# EAGLE library part MICRO_ATTINY85 (library homemade-hardware)
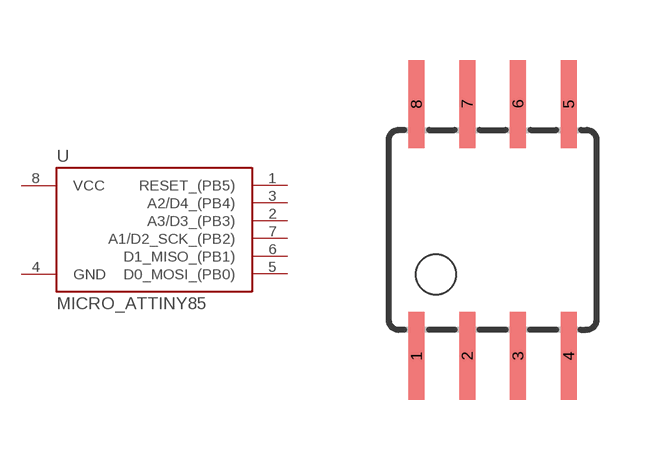
[diagram p11: symbol with the pads of SOIC8; footprint SOIC8]

Designator prefix -

## MICRO_ATTINY85-20SU  [SOIC8]
1  RESET_(PB5)
2  A3/D3_(PB3)
3  A2/D4_(PB4)
4  GND  pwr
5  D0_MOSI_(PB0)
6  D1_MISO_(PB1)
7  A1/D2_SCK_(PB2)
8  VCC  pwr

## Footprint SOIC8 (pad centres in mm)
Wide Plastic Gull Wing Small Outline Package
smd 0.4 x 2.2: 1 -1.905,-3.154; 2 -0.635,-3.154; 3 0.635,-3.154; 4 1.905,-3.154; 5 1.905,3.154; 6 0.635,3.154; 7 -0.635,3.154; 8 -1.905,3.154